# EAGLE library part IPL1-115-01-XXX-D-RA (library BMS_Slave_v2)
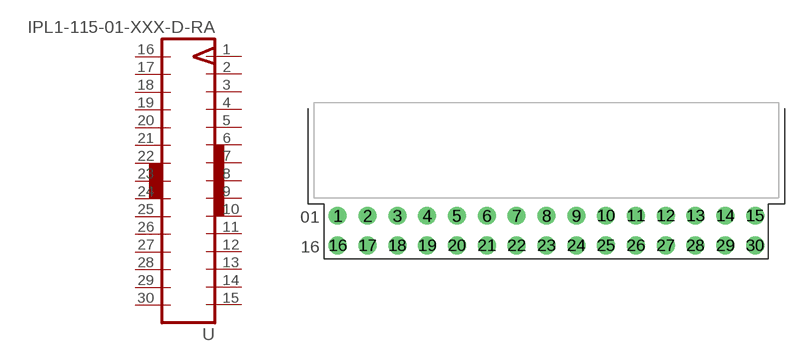
[diagram p8: symbol with the pads of IPL1-115-01-XXX-D-RA; footprint IPL1-115-01-XXX-D-RA]

Designator prefix -

## IPL1-115-01-XXX-D-RA  [IPL1-115-01-XXX-D-RA]
1  1
2  2
3  3
4  4
5  5
6  6
7  7
8  8
9  9
10  10
11  11
12  12
13  13
14  14
15  15
16  16
17  17
18  18
19  19
20  20
21  21
22  22
23  23
24  24
25  25
26  26
27  27
28  28
29  29
30  30

## Footprint IPL1-115-01-XXX-D-RA (pad centres in mm)
drill 1.016 pad 1.524: 1 -17.78,1.27; 2 -15.24,1.27; 3 -12.7,1.27; 4 -10.16,1.27; 5 -7.62,1.27; 6 -5.08,1.27; 7 -2.54,1.27; 8 0,1.27; 9 2.54,1.27; 10 5.08,1.27; 11 7.62,1.27; 12 10.16,1.27; 13 12.7,1.27; 14 15.24,1.27; 15 17.78,1.27; 16 -17.78,-1.27; 17 -15.24,-1.27; 18 -12.7,-1.27; 19 -10.16,-1.27; 20 -7.62,-1.27; 21 -5.08,-1.27; 22 -2.54,-1.27; 23 0,-1.27; 24 2.54,-1.27; 25 5.08,-1.27; 26 7.62,-1.27; 27 10.16,-1.27; 28 12.7,-1.27; 29 15.24,-1.27; 30 17.78,-1.27